# Altium schematic symbol library DFLS1150-7.SchLib: 1 symbol
Pins are listed as number, name and electrical type; pins without a type are passive.

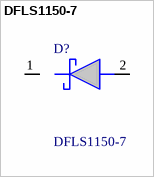
[diagram p0: symbol DFLS1150-7]

## DFLS1150-7
designator D?
Diodes Inc DFLS1150-7, SMT Schottky Diode, 150V 1A, 2-Pin PowerDI 123; Manufacturer_Name: Diodes Incorporated; Geometry.Height: 1mm; Mouser Part Number: 621-DFLS1150-7; Mouser Price/Stock: https://www.mouser.co.uk/ProductDetail/Diodes-Incorporated/DFLS1150-7?qs=mQbszxtPdlOd7jzC8V7k8A%3D%3D; Manufacturer_Part_Number: DFLS1150-7; Datasheet Link: https://www.diodes.com/assets/Datasheets/ds30593.pdf
footprint SODFL3718X100N
pins: 1 K, 2 A